# EAGLE library part ATX_POWER_CON (library xess)
ATX power connector
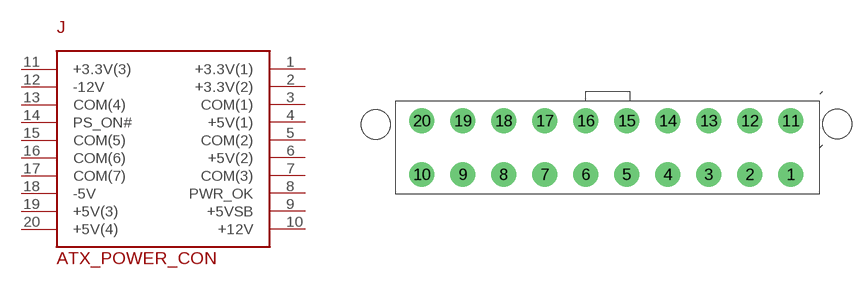
[diagram p12: symbol with the pads of MOLEX-5566; footprint MOLEX-5566]

Designator prefix J

## ATX_POWER_CON  [MOLEX-5566]
1  +3.3V(1)
2  +3.3V(2)
3  COM(1)
4  +5V(1)
5  COM(2)
6  +5V(2)
7  COM(3)
8  PWR_OK
9  +5VSB
10  +12V
11  +3.3V(3)
12  -12V
13  COM(4)
14  PS_ON#
15  COM(5)
16  COM(6)
17  COM(7)
18  -5V
19  +5V(3)
20  +5V(4)

## Footprint MOLEX-5566 (pad centres in mm)
drill 1.422 pad 2.54 round: 1 0,0; 2 -4.2,0; 3 -8.4,0; 4 -12.6,0; 5 -16.8,0; 6 -21,0; 7 -25.2,0; 8 -29.4,0; 9 -33.6,0; 10 -37.8,0; 11 0,5.5; 12 -4.2,5.5; 13 -8.4,5.5; 14 -12.6,5.5; 15 -16.8,5.5; 16 -21,5.5; 17 -25.2,5.5; 18 -29.4,5.5; 19 -33.6,5.5; 20 -37.8,5.5
hole 3 at -42.52,5.12
hole 3 at 4.77,5.17